# Altium schematic symbol library TBP02R1-381-02BE.SchLib: 1 symbol
Pins are listed as number, name and electrical type; pins without a type are passive.

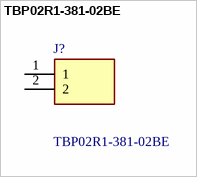
[diagram p0: symbol TBP02R1-381-02BE]

## TBP02R1-381-02BE
designator J?
2~24 Poles, Pluggable,Receptacle, Horizontal, 3.81 Pitch, Terminal Block Connector; Manufacturer_Name: Same Sky; Geometry.Height: 7.2mm; Mouser Part Number: 490-TBP02R1-381-02BE; Mouser Price/Stock: https://www.mouser.co.uk/ProductDetail/CUI-Devices/TBP02R1-381-02BE?qs=PzGy0jfpSMuDSg0nR5k9Yg%3D%3D; Manufacturer_Part_Number: TBP02R1-381-02BE; Datasheet Link: https://www.sameskydevices.com/product/resource/supplyframepdf/tbp02r1-381.pdf
footprint TBP02R138102BE
pins: 1, 2